# Altium schematic symbol library RF_WiFi.SchLib: 2 symbols
Pins are listed as number, name and electrical type; pins without a type are passive.

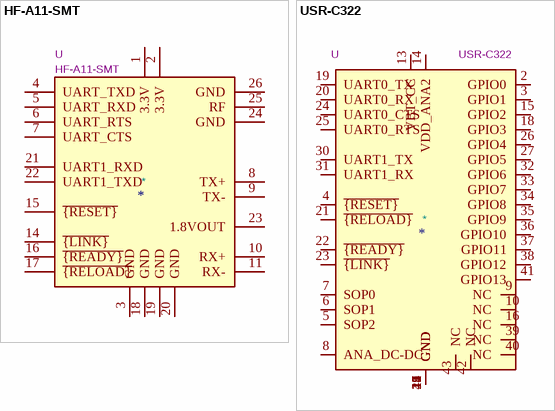
[diagram p0: symbols HF-A11-SMT to USR-C322]

## HF-A11-SMT
designator *  value HF-A11-SMT  Reference: U
WiFi IEEE802.11b/g/n with Ethernet Module, UART, GPIO; Datasheet: http://www.hi-flying.com/index.php?route=tool/upload/download&code=190ec6c62d497905ed783d140f8e5af7a753b8ab; Description_: WiFi IEEE802.11b/g/n with Ethernet Module, UART, GPIO; ki_keywords: WiFi IEEE802.11 b/g/n
pins: 1 3.3V, 2 3.3V, 3 GND, 4 UART_TXD, 5 UART_RXD, 6 UART_RTS, 7 UART_CTS, 8 TX+, 9 TX-, 10 RX+, 11 RX-, 14 ~{{LINK}}, 15 ~{{RESET}}, 16 ~{{READY}}, 17 ~{{RELOAD}}, 18 GND, 19 GND, 20 GND, 21 UART1_RXD, 22 UART1_TXD, 23 1.8VOUT, 24 GND, 25 RF, 26 GND

## USR-C322
designator *  value USR-C322  Reference: U
802.11 b/g/n Wi-Fi Module; ki_keywords: WiFi IEEE802.11 b/g/n; ki_fp_filters: USR?C322*; Footprint: RF_WiFi:USR-C322; Datasheet: https://www.usriot.com/download/WIFI/USR-C322%20User%20Manual%20V2.3.pdf; Description_: 802.11 b/g/n Wi-Fi Module
pins: 1 GND, 2 GPIO0, 3 GPIO1, 4 ~{{RESET}}, 5 SOP2, 6 SOP1, 7 SOP0, 8 ANA_DC-DC, 9 NC, 10 NC, 11 GND, 12 GND, 13 VBT_CC, 14 VDD_ANA2, 15 GPIO2, 16 NC, 17 GND, 18 GPIO3, 19 UART0_TX, 20 UART0_RX, 21 ~{{RELOAD}}, 22 ~{{READY}}, 23 ~{{LINK}}, 24 UART0_CTS, 25 UART0_RTS, 26 GPIO4, 27 GPIO5, 28 GND, 29 GND, 30 UART1_TX, 31 UART1_RX, 32 GPIO6, 33 GPIO7, 34 GPIO8, 35 GPIO9, 36 GPIO10, 37 GPIO11, 38 GPIO12, 39 NC, 40 NC, 41 GPIO13, 42 NC, 43 NC, 44 GND